# Altium footprint library PCB - CONNECTOR - WURTH - 61201421621.PcbLib: 1 footprints
Each footprint in its own frame and in the unit in brackets; x right, y up, seen from the top. Pads: shape width x height; smd on the part's side, far side on the other; paste and mask are expansions set on the pad; w line width, h text height; cw(c..) or ccw(c..) is an arc to the next point about the centre after c.
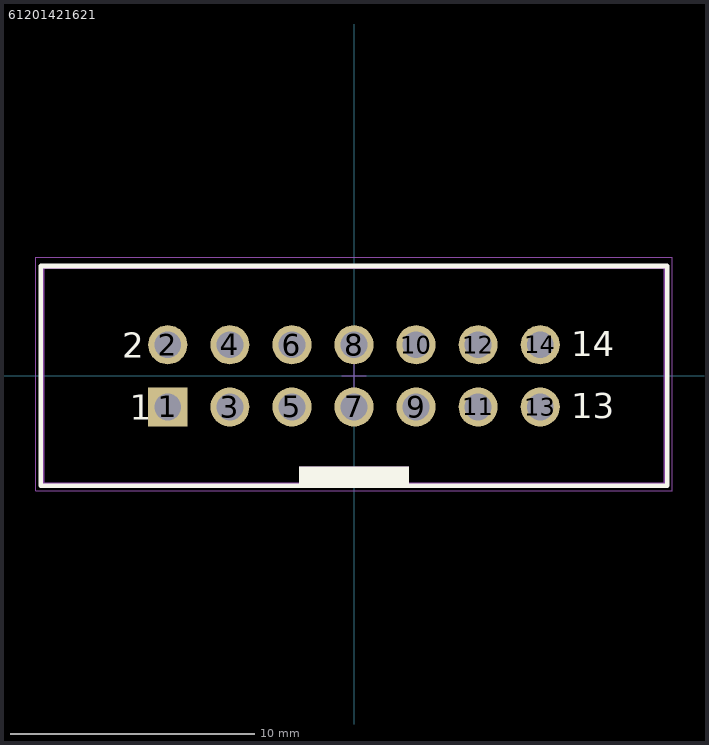
[diagram p0: the footprint, top view; thin cyan lines are the x and y axes]

## 61201421621 [mm] "14 pins, straight, gold plating"
height 9.1
pads (14):
  rect 1.6x1.6 hole 1.1: 1(-7.62,-1.27)
  round 1.6 hole 1.1: 2(-7.62,1.27) 3(-5.08,-1.27) 4(-5.08,1.27) 5(-2.54,-1.27) 6(-2.54,1.27) 7(0,-1.27) 8(0,1.27) 9(2.54,-1.27) 10(2.54,1.27) 11(5.08,-1.27) 12(5.08,1.27) 13(7.62,-1.27) 14(7.62,1.27)
Top Overlay:
  rectangle: -2.25,-4.5 2.25,-3.7
  lines w0.2: -12.82,-4.5 -12.82,4.5 12.82,4.5 12.82,-4.5 -12.82,-4.5
  text "14" at 8.88,0.8 h1.02
  text "13" at 8.88,-1.74 h1.02
  text "2" at -9.48,0.74 h1.02
  text "1" at -9.18,-1.8 h1.02
Top 3D Body:
  rectangle: -2.25,-4.425 2.25,-3.7
  lines w0.1: -12.72,-4.425 12.72,-4.425 12.72,4.425 -12.72,4.425 -12.72,-4.425
Top Assembly:
  lines w0.05: -13.02,-4.7 13.02,-4.7 13.02,4.85 -13.02,4.85 -13.02,-4.7
Top Component Center:
  lines w0.05: -0.5,0 0.5,0 ; 0,-0.5 0,0.5
3D body "61201421621.stp": height 9.13, standoff -2.98, extent -12.72,-4.425 12.72,4.75